# Altium footprint library LYDZ.PcbLib: 231 footprints (part 15 of 15)
Each footprint in its own frame and in the unit in brackets; x right, y up, seen from the top. Pads: shape width x height; smd on the part's side, far side on the other; paste and mask are expansions set on the pad; w line width, h text height; cw(c..) or ccw(c..) is an arc to the next point about the centre after c.
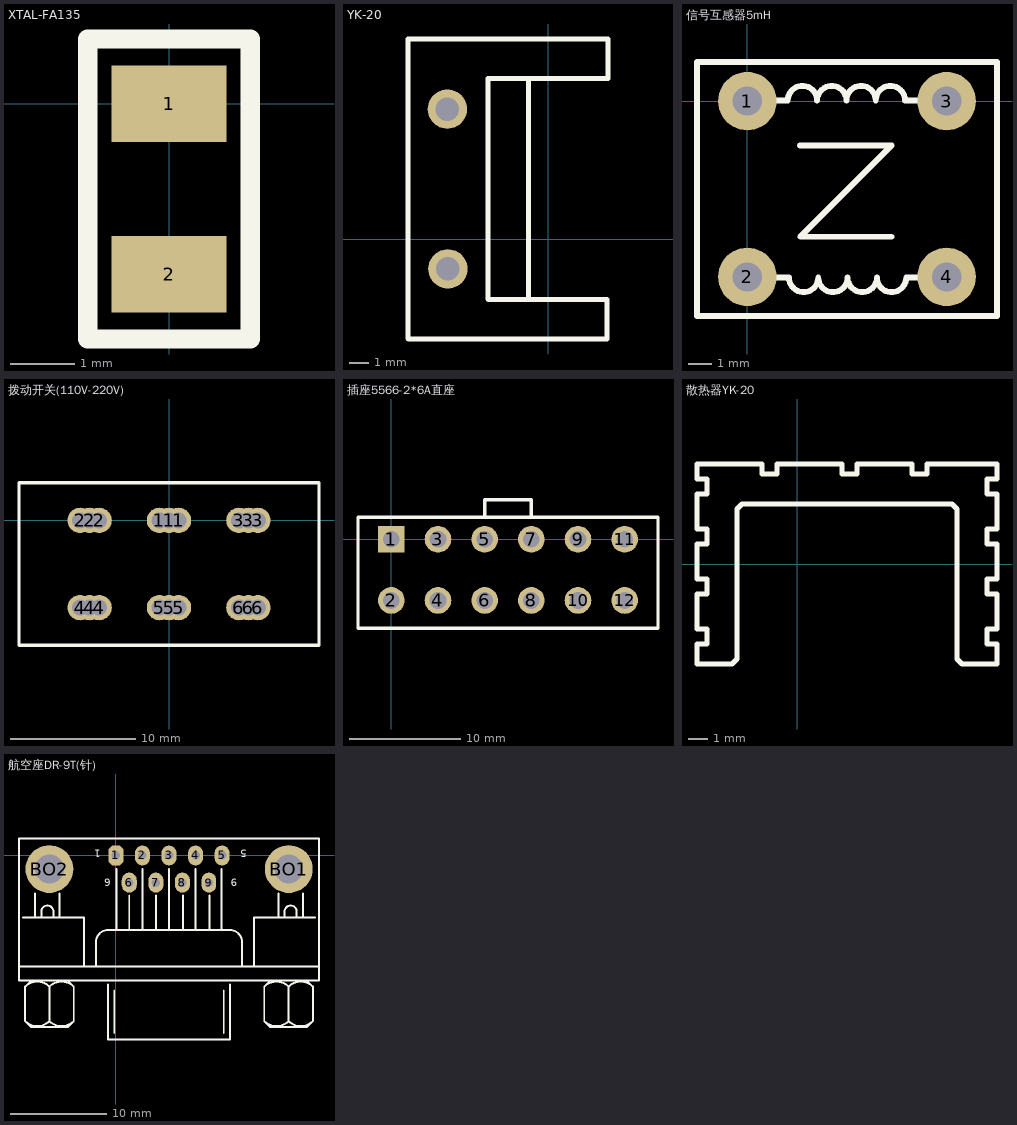
[diagram p14: the footprints below, top view; thin cyan lines are the x and y axes]

## XTAL-FA135 [mm]
pads (2):
  rect 1.8x1.2 smd: 1(0,0) 2(0,-2.667)
Top Overlay:
  lines w0.305: -1.27,-3.683 1.27,-3.683 1.27,1.016 -1.27,1.016 -1.27,-3.683

## YK-20 [mm]
pads (2):
  round 2 hole 1.2: ""(-5.105,6.604) ""(-5.08,-1.499)
Top Overlay:
  lines w0.254: -7.112,-3.15 -7.112,10.16 3.048,10.16 3.048,8.153 -3.048,8.153 -3.048,0.305 -3.048,-3.023 -3.023,-3.048 2.997,-3.048 2.997,-5.055 -7.087,-5.055 -7.112,-5.029 -7.112,-1.93 ; -7.112,-3.048 -7.112,8.153 ; -1.041,-3.048 -0.991,-2.997 -0.991,8.153 ; -0.991,6.35 -0.991,8.077

## 信号互感器5mH [mil]
pads (4):
  round 100 hole 50: 1(0,0) 2(0,-300) 3(340,0) 4(340,-300)
Top Overlay:
  lines w10: 44,1 69,1 cw(c94,1) 119,1 cw(c144,1) 169,1 cw(c194,1) 219,1 cw(c244,1) 269,1 289,1 ; 51,-301 71,-301 ccw(c96,-301) 121,-301 ccw(c146,-301) 171,-301 ccw(c196,-301) 221,-301 ccw(c246,-301) 271,-301 296,-301 ; 90,-75.56 246.44,-75.56 90.44,-231.56 246,-231.56 ; -85.91,-366.54 -85.91,66.54 425.91,66.54 425.91,-366.54 -85.91,-366.54

## 拨动开关(110V-220V) [mil]
pads (18):
  round 80 hole 50: 1(-30,0) 1(0,0) 1(30,0) 2(-280,0) 2(-250,0) 2(-220,0) 3(220,0) 3(250,0) 3(280,0) 4(-280,-275) 4(-250,-275) 4(-220,-275) 5(-30,-275) 5(0,-275) 5(30,-275) 6(220,-275) 6(250,-275) 6(280,-275)
Top Overlay:
  lines w10: 472.44,-393.4 -472.44,-393.4 -472.44,118.41 472.44,118.41 472.44,-391.81

## 插座5566-2*6A直座 [mm]
pads (12):
  rect 2.4x2.4 hole 1.5: 1(0,0)
  round 2.4 hole 1.5: 2(0,-5.5) 3(4.2,0) 4(4.2,-5.5) 5(8.4,0) 6(8.4,-5.5) 7(12.6,0) 8(12.6,-5.5) 9(16.8,0) 10(16.8,-5.5) 11(21,0) 12(21,-5.5)
Top Overlay:
  lines w0.305: 8.4,2.032 8.4,3.556 12.6,3.556 12.6,2.032 ; -3,-8 -3,2 24,2 24,-8 -3,-8

## 散热器YK-20 [mil]
Top Overlay:
  lines w10: -200,-200 -200,-160 -180,-160 -180,-130 -200,-130 -200,-60 -180,-60 -180,-30 -200,-30 -200,40 -180,40 -180,70 -200,70 -200,140 -180,140 -180,170 -200,170 -200,200 -70,200 -70,180 -40,180 -40,200 90,200 90,180 120,180 120,200 230,200 230,180 260,180 260,200 400,200 400,170 380,170 380,140 400,140 400,70 380,70 380,40 400,40 400,-30 380,-30 380,-60 400,-60 400,-130 380,-130 380,-160 400,-160 400,-200 350,-200 330,-200 320,-190 320,110 310,120 -110,120 -120,110 -120,-190 -130,-200 -200,-200

## 航空座DR-9T(针) [mil]
pads (11):
  oct 62x82 hole 35: 1(0,0)
  oval 62x82 hole 35: 2(109.17,0) 3(218.33,0) 4(327.5,0) 5(436.67,0) 6(55,-111.67) 7(164.17,-111.67) 8(273.33,-111.67)
  oval 60x82 hole 35: 9(382.5,-111.67)
  round 196.67 hole 118.33: BO1(710.83,-55.83) BO2(-273.33,-55.83)
Top Overlay:
  lines w8: -398.33,-455.83 835,-455.83 ; -381.67,-255.83 -131.67,-255.83 -131.67,-455.83 ; -373.42,-680.92 ccw(c-323.33,-630.83) -273.25,-680.92 ; -373.42,-539.08 cw(c-323.33,-589.17) -273.25,-539.08 ; -348.33,-514.17 -373.33,-539.17 -373.33,-680.83 -348.33,-705.83 -198.33,-705.83 -173.33,-680.83 -173.33,-539.17 -198.33,-514.17 ; -331.67,-255.83 -331.67,-155.83 ; -306.67,-255.83 -306.67,-230.83 cw(c-281.67,-230.83) -256.67,-230.83 -256.67,-255.83 ; -273.42,-680.92 ccw(c-223.33,-630.83) -173.25,-680.92 ; -273.42,-539.08 cw(c-223.33,-589.17) -173.25,-539.08 ; -273.33,-680.83 -273.33,-539.17 ; -231.67,-255.83 -231.67,-155.83 ; -81.67,-455.83 -81.67,-355.83 cw(c-31.67,-355.83) -31.67,-305.83 468.33,-305.83 cw(c468.33,-355.83) 518.33,-355.83 518.33,-455.83 ; -31.67,-530.83 -31.67,-755.83 468.33,-755.83 468.33,-530.83 ; -6.67,-730.83 -6.67,-555.83 ; 1.67,-305.83 1.67,-55.83 ; 55,-305.83 55,-165 ; 110,-305.83 110,-55.83 ; 165,-305.83 165,-165 ; 218.33,-305.83 218.33,-55.83 ; 275,-305.83 275,-165 ; 326.67,-305.83 326.67,-55.83 ; 385,-305.83 385,-165 ; 435,-305.83 435,-55.83 ; 443.33,-730.83 443.33,-555.83 ; 568.33,-455.83 568.33,-255.83 818.33,-255.83 ; 609.91,-680.92 ccw(c660,-630.83) 710.09,-680.92 ; 609.91,-539.08 cw(c660,-589.17) 710.09,-539.08 ; 635,-514.17 610,-539.17 610,-680.83 635,-705.83 785,-705.83 810,-680.83 810,-539.17 785,-514.17 ; 668.33,-255.83 668.33,-155.83 ; 693.33,-255.83 693.33,-230.83 cw(c718.33,-230.83) 743.33,-230.83 743.33,-255.83 ; 709.91,-680.92 ccw(c760,-630.83) 810.09,-680.92 ; 709.91,-539.08 cw(c760,-589.17) 810.09,-539.08 ; 710,-680.83 710,-539.17 ; 768.33,-255.83 768.33,-155.83 ; -398.33,-514.17 -398.33,69.17 835,69.17 835,-514.17 -398.33,-514.17
  text "6" at -21.67,-95.83 h30
  text "1" at -61.67,24.17 h30
  text "5" at 538.33,24.17 h30
  text "9" at 498.33,-95.83 h30